# Altium footprint library pedals-integrated circuits.PCBLIB: 25 footprints (part 2 of 2)
Each footprint in its own frame and in the unit in brackets; x right, y up, seen from the top. Pads: shape width x height; smd on the part's side, far side on the other; paste and mask are expansions set on the pad; w line width, h text height; cw(c..) or ccw(c..) is an arc to the next point about the centre after c.
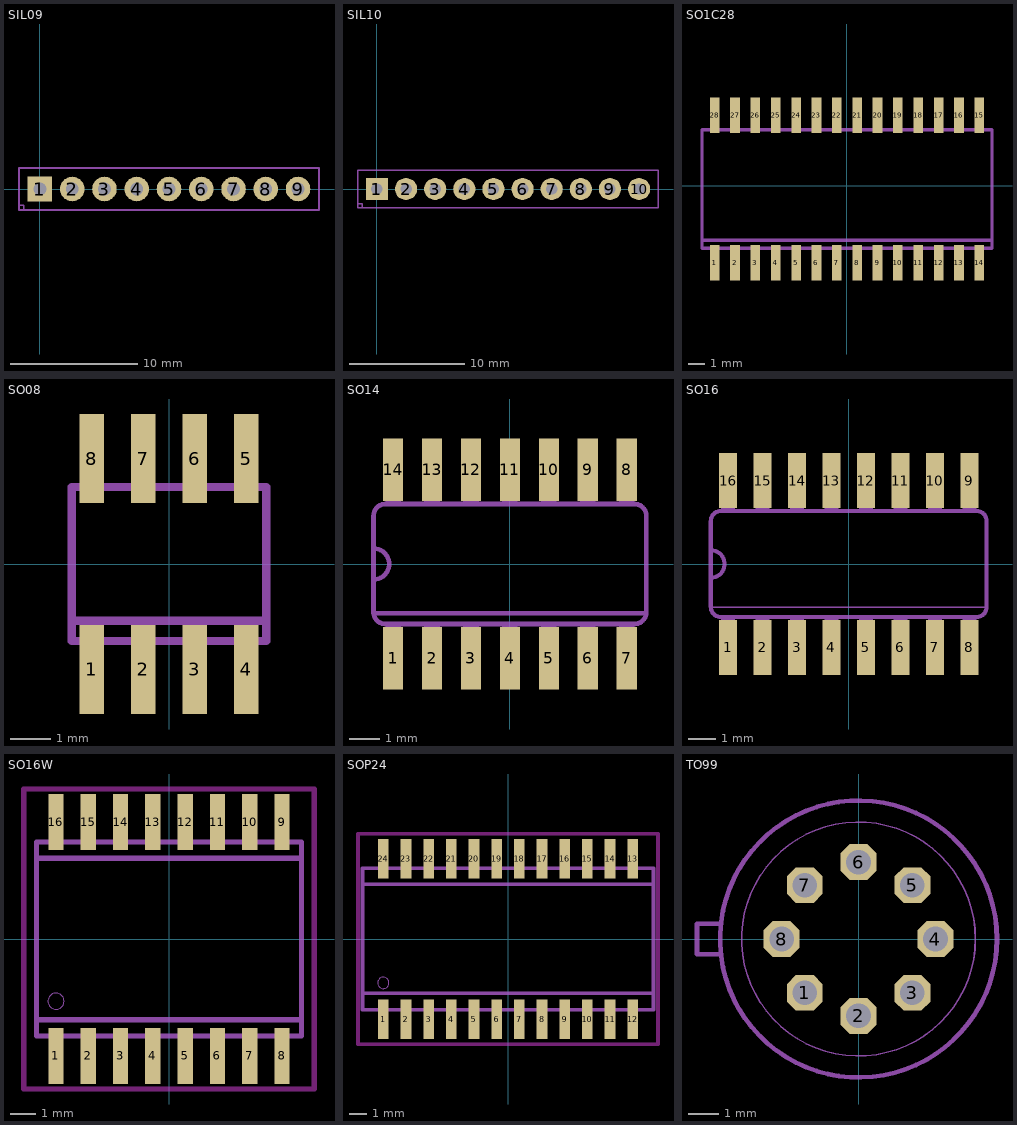
[diagram p1: the footprints below, top view; thin cyan lines are the x and y axes]

## SIL09 [mil]
pads (9):
  rect 76x76 hole 39.37: 1(0,0)
  round 76 hole 39.37: 2(100,0) 3(200,0) 4(300,0) 5(400,0) 6(500,0) 7(600,0) 8(700,0) 9(800,0)
Mechanical 2:
  lines w5: -65,-50 -65,-65 -50,-65 ; -65,-50 -65,65 865,65 865,-65 -50,-65 ; -65,-50 -50,-50 -50,-65

## SIL10 [mil]
pads (10):
  rect 76x76 hole 39.37: 1(0,0)
  round 76 hole 39.37: 2(100,0) 3(200,0) 4(300,0) 5(400,0) 6(500,0) 7(600,0) 8(700,0) 9(800,0) 10(900,0)
Mechanical 2:
  lines w5: -65,-50 -65,-65 -50,-65 ; -65,-50 -65,65 965,65 965,-65 -50,-65 ; -65,-50 -50,-50 -50,-65

## SO1C28 [mm]
pads (28):
  rect 0.6x2.2 smd: 1(-8.24,-4.79) 2(-6.97,-4.79) 3(-5.7,-4.79) 4(-4.43,-4.79) 5(-3.16,-4.79) 6(-1.89,-4.79) 7(-0.62,-4.79) 8(0.65,-4.79) 9(1.92,-4.79) 10(3.19,-4.79) 11(4.46,-4.79) 12(5.73,-4.79) 13(7,-4.79) 14(8.27,-4.79) 15(8.27,4.41) 16(7,4.41) 17(5.73,4.41) 18(4.46,4.41) 19(3.19,4.41) 20(1.92,4.41) 21(0.65,4.41) 22(-0.62,4.41) 23(-1.89,4.41) 24(-3.16,4.41) 25(-4.43,4.41) 26(-5.7,4.41) 27(-6.97,4.41) 28(-8.24,4.41)
Mechanical 2:
  lines w0.203: -9.035,-3.39 -9.035,-3.89 9.065,-3.89 9.065,-3.39 ; -9.035,-3.39 -9.035,3.51 9.065,3.51 9.065,-3.39 ; -9.035,-3.39 9.065,-3.39
Mechanical 18:
  rectangle: -8.485,-5.51 -7.995,-3.99
  rectangle: -7.215,-5.51 -6.725,-3.99
  rectangle: -5.945,-5.51 -5.455,-3.99
  rectangle: -4.675,-5.51 -4.185,-3.99
  rectangle: -3.405,-5.51 -2.915,-3.99
  rectangle: -2.135,-5.51 -1.645,-3.99
  rectangle: -0.865,-5.51 -0.375,-3.99
  rectangle: 0.405,-5.51 0.895,-3.99
  rectangle: 1.675,-5.51 2.165,-3.99
  rectangle: 2.945,-5.51 3.435,-3.99
  rectangle: 4.215,-5.51 4.705,-3.99
  rectangle: 5.485,-5.51 5.975,-3.99
  rectangle: 6.755,-5.51 7.245,-3.99
  rectangle: 8.025,-5.51 8.515,-3.99
  rectangle: 8.025,3.61 8.515,5.13
  rectangle: 6.755,3.61 7.245,5.13
  rectangle: 5.485,3.61 5.975,5.13
  rectangle: 4.215,3.61 4.705,5.13
  rectangle: 2.945,3.61 3.435,5.13
  rectangle: 1.675,3.61 2.165,5.13
  rectangle: 0.405,3.61 0.895,5.13
  rectangle: -0.865,3.61 -0.375,5.13
  rectangle: -2.135,3.61 -1.645,5.13
  rectangle: -3.405,3.61 -2.915,5.13
  rectangle: -4.675,3.61 -4.185,5.13
  rectangle: -5.945,3.61 -5.455,5.13
  rectangle: -7.215,3.61 -6.725,5.13
  rectangle: -8.485,3.61 -7.995,5.13

## SO08 [mil]
pads (8):
  rect 23.62x86.61 smd: 1(-75,-102.36) 2(-25,-102.36) 3(25,-102.36) 4(75,-102.36) 5(75,102.36) 6(25,102.36) 7(-25,102.36) 8(-75,102.36)
Mechanical 18:
  rectangle: -84.65,-122.05 -65.35,-78.74
  rectangle: -34.65,-122.05 -15.35,-78.74
  rectangle: 15.35,-122.05 34.65,-78.74
  rectangle: 65.35,-122.05 84.65,-78.74
  rectangle: 65.35,78.74 84.65,122.05
  rectangle: 15.35,78.74 34.65,122.05
  rectangle: -34.65,78.74 -15.35,122.05
  rectangle: -84.65,78.74 -65.35,122.05
  lines w8: -94.49,-55.12 -94.49,-74.8 94.49,-74.8 94.49,-55.12 ; -94.49,-55.12 -94.49,74.8 94.49,74.8 94.49,-55.12 ; -94.49,-55.12 94.49,-55.12

## SO14 [mil]
pads (14):
  rect 26x80 smd: 1(-150,-121) 2(-100,-121) 3(-50,-121) 4(0,-121) 5(50,-121) 6(100,-121) 7(150,-121) 8(150,121) 9(100,121) 10(50,121) 11(0,121) 12(-50,121) 13(-100,121) 14(-150,121)
Mechanical 2:
  lines w6: -175,-63 175,-63 ; -175,-20 -175,20 ; -175,-20 -175,-62 ccw(c-160,-62) -160,-77 160,-77 ccw(c160,-62) 175,-62 175,62 ccw(c160,62) 160,77 -160,77 ccw(c-160,62) -175,62 -175,20 ; -175,-20 ccw(c-175,0) -175,20
Mechanical 18:
  rectangle: -10,77 10,122
  rectangle: -160,-122 -140,-77
  rectangle: -110,-122 -90,-77
  rectangle: -60,-121 -40,-76
  rectangle: -10,-122 10,-77
  rectangle: -60,77 -40,122
  rectangle: -110,77 -90,122
  rectangle: -160,77 -140,122
  rectangle: 40,77 60,122
  rectangle: 90,77 110,122
  rectangle: 140,77 160,122
  rectangle: 40,-122 60,-77
  rectangle: 90,-122 110,-77
  rectangle: 140,-122 160,-77

## SO16 [mil]
pads (16):
  rect 26x80 smd: 1(-175,-121) 2(-125,-121) 3(-75,-121) 4(-25,-121) 5(25,-121) 6(75,-121) 7(125,-121) 8(175,-121) 9(175,121) 10(125,121) 11(75,121) 12(25,121) 13(-25,121) 14(-75,121) 15(-125,121) 16(-175,121)
Mechanical 2:
  lines w2: -200,-63 200,-63
  lines w6: -200,-20 ccw(c-200,0) -200,20 ; -200,-62 ccw(c-185,-62) -185,-77 185,-77 ccw(c185,-62) 200,-62 200,62 ccw(c185,62) 185,77 -185,77 ccw(c-185,62) -200,62 -200,-62
Mechanical 18:
  rectangle: -35,77 -15,122
  rectangle: -185,-122 -165,-77
  rectangle: -135,-122 -115,-77
  rectangle: -85,-121 -65,-76
  rectangle: -35,-122 -15,-77
  rectangle: -85,77 -65,122
  rectangle: -135,77 -115,122
  rectangle: -185,77 -165,122
  rectangle: 15,-122 35,-77
  rectangle: 65,-122 85,-77
  rectangle: 115,-122 135,-77
  rectangle: 165,-122 185,-77
  rectangle: 15,77 35,122
  rectangle: 65,77 85,122
  rectangle: 115,77 135,122
  rectangle: 165,77 185,122

## SO16W [mil]
pads (16):
  rect 23.62x86.61 smd: 1(-175,-181.1) 2(-125,-181.1) 3(-75,-181.1) 4(-25,-181.1) 5(25,-181.1) 6(75,-181.1) 7(125,-181.1) 8(175,-181.1) 9(175,181.1) 10(125,181.1) 11(75,181.1) 12(25,181.1) 13(-25,181.1) 14(-75,181.1) 15(-125,181.1) 16(-175,181.1)
Keep-Out Layer:
  lines w7.87: -224.9,-232.28 224.9,-232.28 224.9,232.28 -224.9,232.28 -224.9,-232.28
Mechanical 2:
  circle w0: c-175,-96.25 r12.5
  lines w8: -205,-125 205,-125 205,125 -205,125 -205,-125
Mechanical 18:
  rectangle: -184.65,-209.45 -165.35,-149.61
  rectangle: -134.65,-209.45 -115.35,-149.61
  rectangle: -84.65,-209.45 -65.35,-149.61
  rectangle: -34.65,-209.45 -15.35,-149.61
  rectangle: 15.35,-209.45 34.65,-149.61
  rectangle: 65.35,-209.45 84.65,-149.61
  rectangle: 115.35,-209.45 134.65,-149.61
  rectangle: 165.35,-209.45 184.65,-149.61
  rectangle: 165.35,149.61 184.65,209.45
  rectangle: 115.35,149.61 134.65,209.45
  rectangle: 65.35,149.61 84.65,209.45
  rectangle: 15.35,149.61 34.65,209.45
  rectangle: -34.65,149.61 -15.35,209.45
  rectangle: -84.65,149.61 -65.35,209.45
  rectangle: -134.65,149.61 -115.35,209.45
  rectangle: -184.65,149.61 -165.35,209.45
  lines w8: -205,-150 205,-150 205,150 -205,150 -205,-150

## SOP24 [mil]
pads (24):
  rect 23.62x86.61 smd: 1(-275,-177.17) 2(-225,-177.17) 3(-175,-177.17) 4(-125,-177.17) 5(-75,-177.17) 6(-25,-177.17) 7(25,-177.17) 8(75,-177.17) 9(125,-177.17) 10(175,-177.17) 11(225,-177.17) 12(275,-177.17) 13(275,177.17) 14(225,177.17) 15(175,177.17) 16(125,177.17) 17(75,177.17) 18(25,177.17) 19(-25,177.17) 20(-75,177.17) 21(-125,177.17) 22(-175,177.17) 23(-225,177.17) 24(-275,177.17)
Keep-Out Layer:
  lines w7.87: -330.71,-232.28 -330.71,232.28 330.71,232.28 330.71,-232.28 -330.71,-232.28
Mechanical 2:
  circle w0: c-275,-96.75 r12.5
  lines w8: -320.67,-119.69 -320.67,120.47 320.67,120.47 320.67,-119.69 -320.67,-119.69
Mechanical 18:
  rectangle: -284.84,-212.2 -265.16,-159.84
  rectangle: -234.84,-212.2 -215.16,-159.84
  rectangle: -184.84,-212.2 -165.16,-159.84
  rectangle: -134.84,-212.2 -115.16,-159.84
  rectangle: -84.84,-212.2 -65.16,-159.84
  rectangle: -34.84,-212.2 -15.16,-159.84
  rectangle: 15.16,-212.2 34.84,-159.84
  rectangle: 65.16,-212.2 84.84,-159.84
  rectangle: 115.16,-212.2 134.84,-159.84
  rectangle: 165.16,-212.2 184.84,-159.84
  rectangle: 215.16,-212.2 234.84,-159.84
  rectangle: 265.16,-212.2 284.84,-159.84
  rectangle: 265.16,159.84 284.84,212.2
  rectangle: 215.16,159.84 234.84,212.2
  rectangle: 165.16,159.84 184.84,212.2
  rectangle: 115.16,159.84 134.84,212.2
  rectangle: 65.16,159.84 84.84,212.2
  rectangle: 15.16,159.84 34.84,212.2
  rectangle: -34.84,159.84 -15.16,212.2
  rectangle: -84.84,159.84 -65.16,212.2
  rectangle: -134.84,159.84 -115.16,212.2
  rectangle: -184.84,159.84 -165.16,212.2
  rectangle: -234.84,159.84 -215.16,212.2
  rectangle: -284.84,159.84 -265.16,212.2
  lines w8: -320.67,-119.69 -320.67,-155.91 320.67,-155.91 320.67,-119.69 ; -320.67,120.47 -320.67,155.91 320.67,155.91 320.67,120.47

## TO99 [mil]
pads (8):
  oct 46.48x46.48 hole 32: 1(-70,-70) 2(0,-100) 3(70,-70) 4(100,0) 5(70,70) 6(0,100) 7(-70,70) 8(-100,0)
Mechanical 2:
  circle w6: c0,0 r180
  circle w2: c0,0 r152
  lines w6: -180,-20 -210,-20 -210,20 -180,20